# Altium integrated library PowerInductors.IntLib: 24 symbols
Pins are listed as number, name and electrical type; pins without a type are passive.

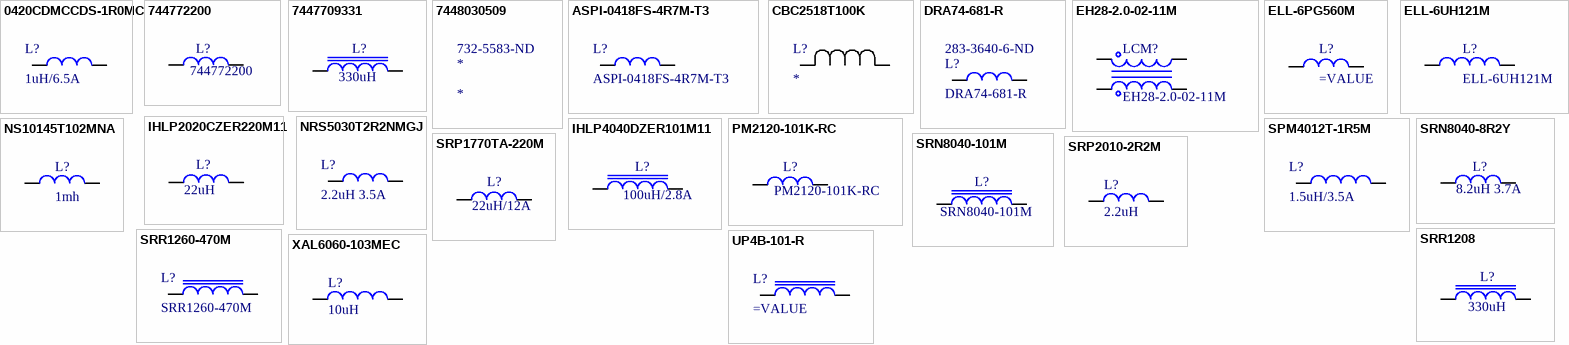
[diagram p0: symbols 0420CDMCCDS-1R0MC to XAL6060-103MEC]

## 0420CDMCCDS-1R0MC
designator L?, comment 1uH/6.5A
FIXED IND 1UH 6.5A 27 MOHM; Manufacturer 1: Sumida; Manufacturer Part Number 1: 0420CDMCCDS-1R0MC; Core Material: Metal; Saturation Current: 8A; Shielding: Shielded; DC Resistance (DCR): 27mR; Test Frequency: 100kHz; Tolerance: 20%; Supplier 1: Digi-Key; RoHS: Yes; Category: Fixed Inductors; Stock 1: 23794; Pricing 1: 1=0,86000, 10=0,75700, 100=0,54050, 500=0,45402, 1000=0,36754 (USD); Mount: Surface Mount; Case/Package: Nonstandard; Min Operating Temperature: -55°C; Max Operating Temperature: 125°C; Packaging: Tape and Reel; Inductance: 1uH; Current Rating: 6.5A; Length: 0.165inch; Width: 0.165inch; Height - Seated (Max): 0.079inch; ComponentLink1URL: http://products.sumida.com/products/pdf/0420CDMCCDS1.pdf?src-supplier=Digi-Key; ComponentLink1Description: http://products.sumida.com/products/pdf/0420CDMCCDS1.pdf?src-supplier=Digi-Key; Value: 1uH/6.5A; Supplier Part Number 1: 308-2406-1-ND
footprint 0420CDMCCDS
pins: 1, 2

## 744772200
designator L?
FIXED IND 20UH 2.6A 50 MOHM TH; Manufacturer: Wurth Electronics Inc.; Type: Wirewound; Material - Core: Ferrite; Tolerance: ±10%; Shielding: Unshielded; DC Resistance (DCR): 50 mOhm Max; Supplier 1: Digi-Key; Manufacturer Part Number: 744772200; RoHS: RoHS Compliant; Category: Inductors, Coils, Chokes; Stock 1: 217; Pricing 1: 1=0.96, 10=0.909, 50=0.847, 140=0.753, 280=0.69 (USD); Packaging: Tray; Part Status: Active; Q @ Freq: -; Ratings: -; Operating Temperature: -40°C ~ 125°C; Mounting Type: Through Hole; Package / Case: Radial; Supplier Device Package: -; Size / Dimension: 0.307" Dia (7.80mm); Height - Seated (Max): 0.394" (10.00mm); ComponentLink1URL: http://katalog.we-online.de/pbs/datasheet/744772200.pdf; ComponentLink1Description: http://katalog.we-online.de/pbs/datasheet/744772200.pdf; Value: 744772200; Supplier Part Number 1: 732-3765-ND
pins: 1, 2

## 7447709331
designator L?, comment 330uH
FIXED IND 330UH 1.5A 430 MOHM; Manufacturer: Wurth Electronics Inc; Manufacturer Part Number: 7447709331; Type: Wirewound; Material - Core: Ferrite; Inductance: 330µH; Tolerance: ±20%; Current - Saturation: 1.7A; Shielding: Shielded; DC Resistance (DCR): 430 mOhm Max; Frequency - Self Resonant: 2MHz; Frequency - Test: 1kHz; Supplier 1: Digi-Key; RoHS: RoHS Compliant; Category: Inductors, Coils, Chokes; Stock 1: 1493; Pricing 1: 1=3.1, 10=3, 50=2.8, 100=2.6 (USD); Packaging: Cut Tape (CT); Part Status: Active; Current Rating: 1.5A; Q @ Freq: -; Ratings: -; Operating Temperature: -40°C ~ 125°C; Mounting Type: Surface Mount; Package / Case: Nonstandard; Size / Dimension: 0.472" L x 0.472" W (12.00mm x 12.00mm); Height - Seated (Max): 0.394" (10.00mm); ComponentLink1URL: http://katalog.we-online.de/pbs/datasheet/7447709331.pdf; ComponentLink1Description: http://katalog.we-online.de/pbs/datasheet/7447709331.pdf; Supplier Part Number 1: 732-1698-1-ND; Value: 330uH
footprint 7447709331 (0.472" L x 0.472" A (12.00 mm x 12.00 mm) H 0.394" (10.00 mm))
pins: 1, 2

## 7448030509
designator *  Supplier Part Number 1: 732-5583-ND
COMMON MODE CHOKE 9MH 5A 2LN TH; Manufacturer: Wurth Electronics Inc.; Manufacturer Part Number: 7448030509; Filter Type: Power Line; Number of Lines: 2; Inductance @ Frequency: 9mH @ 10kHz; DC Resistance (DCR) (Max): 28 mOhm; Voltage Rating - AC: 250V; Supplier 1: Digi-Key; RoHS: RoHS Compliant; Category: Filters; Stock 1: 353; Pricing 1: 1=12.1, 50=10.64, 250=9.07204, 540=8.17602 (USD); Packaging: Bulk; Part Status: Active; Impedance @ Frequency: -; Current Rating (Max): 5A; Voltage Rating - DC: -; Operating Temperature: -40°C ~ 125°C; Ratings: -; Approvals: -; Features: -; Mounting Type: Through Hole; Size / Dimension: 0.866" L x 0.532" W (22.00mm x 13.50mm); Height (Max): 0.984" (25.00mm); Package / Case: Vertical, 4 PC Pin; ComponentLink1URL: http://katalog.we-online.de/pbs/datasheet/7448030509.pdf; ComponentLink1Description: http://katalog.we-online.de/pbs/datasheet/7448030509.pdf

## ASPI-0418FS-4R7M-T3
designator L?
FIXED IND 4.7UH 1.9A 70 MOHM SMD; Manufacturer: Abracon LLC; Type: Wirewound; Material - Core: Ferrite; Inductance: 4.7µH; Tolerance: ±20%; Current - Saturation: 2A; Shielding: Shielded; DC Resistance (DCR): 70 mOhm; Supplier 1: Digi-Key; Manufacturer Part Number: ASPI-0418FS-4R7M-T3; RoHS: RoHS Compliant; Category: Inductors, Coils, Chokes; Stock 1: 5105; Pricing 1: 1=0.54, 10=0.47, 25=0.4368, 50=0.3696, 100=0.336, 250=0.31584, 500=0.28224, 1000=0.22848 (USD); Packaging: Cut Tape (CT); Part Status: Active; Current Rating: 1.9A; Q @ Freq: -; Frequency - Self Resonant: -; Ratings: -; Operating Temperature: -25°C ~ 120°C; Mounting Type: Surface Mount; Package / Case: Nonstandard; Supplier Device Package: -; Size / Dimension: 0.157" L x 0.157" W (4.00mm x 4.00mm); Height - Seated (Max): 0.071" (1.80mm); ComponentLink1URL: http://www.abracon.com/Magnetics/new/ASPI-0418FS.pdf; ComponentLink1Description: http://www.abracon.com/Magnetics/new/ASPI-0418FS.pdf; Value: ASPI-0418FS-4R7M-T3; Supplier Part Number 1: 535-10761-1-ND
footprint ASPI-0418
pins: 1, 2

## CBC2518T100K
designator L?
Imported; Manufacturer_Part_Number: CBC2518T100K; Vendor: TAIYO YUDEN; Built_By: EMA_UL_Team; Type: DEV; C: Copyright (C) 2015 Accelerated Designs. All rights reserved; RefDes: RefDes; Value: Value
footprint IND_TAIYO_CBC251
pins: 1, 2

## DRA74-681-R
designator L?  Supplier Part Number 1: 283-3640-6-ND
Fixed Inductors 680uH 0.352A 2.86ohms; Manufacturer: Eaton Cooper; Core Material: Ferrite; Tolerance: 20%; Shielding: Shielded; Saturation Current: 352mA; Current Rating: 315mA; DC Resistance (DCR): 2.86R; Test Frequency: 100kHz; Current: 386mA; Supplier 1: Digi-Key; Manufacturer Part Number: DRA74-681-R; Stock 1: 3186; Pricing 1: 1=2.28, 10=2.105, 100=1.4732, 500=1.1926 (USD); Mount: Surface Mount; Case/Package: Nonstandard; Weight: 0.016oz; Min Operating Temperature: -40°C; Max Operating Temperature: 165°C; Packaging: Tape and Reel; Package Quantity: 1100; Inductance: 680uh; Inductance Tolerance: 20%; Max DC Current: 352mA; Termination: SMD/SMT; Composition: Wirewound; Self Resonant Frequency: 100kHz; RMS Current (Irms): 315mA; DC Current: 315mA; Military Standard: Not; Length: 7.6mm; Height: 4.35mm; Width: 7.6mm; Height - Seated (Max): 0.171inch; Depth: 7.6mm; REACH SVHC: No SVHC; ComponentLink1URL: https://datasheet.ciiva.com/6694/9190a0eb-f996-4faf-a4d6-7b76f954f32d-6694120.pdf; ComponentLink1Description: https://datasheet.ciiva.com/6694/9190a0eb-f996-4faf-a4d6-7b76f954f32d-6694120.pdf; ComponentLink2URL: https://datasheet.ciiva.com/6694/9190a0eb-f996-4faf-a4d6-7b76f954f32d-6694122.pdf; ComponentLink2Description: https://datasheet.ciiva.com/6694/9190a0eb-f996-4faf-a4d6-7b76f954f32d-6694122.pdf; ComponentLink3URL: https://datasheet.ciiva.com/8005/661909-8005002.pdf; ComponentLink3Description: https://datasheet.ciiva.com/8005/661909-8005002.pdf; ComponentLink4URL: https://datasheet.ciiva.com/6694/9190a0eb-f996-4faf-a4d6-7b76f954f32d-6694124.pdf; ComponentLink4Description: https://datasheet.ciiva.com/6694/9190a0eb-f996-4faf-a4d6-7b76f954f32d-6694124.pdf; Value: DRA74-681-R
footprint DRA74-681-R
pins: 1, 2

## EH28-2.0-02-11M
designator LCM?
COMMON MODE CHOKE 11MH 2A 2LN TH; Manufacturer: Schaffner EMC Inc.; Filter Type: Power Line; Number of Lines: 2; Inductance @ Frequency: 11mH @ 10kHz; DC Resistance (DCR) (Max): 162 mOhm (Typ); Voltage Rating - AC: 250V; Supplier 1: Digi-Key; Manufacturer Part Number: EH28-2.0-02-11M; RoHS: RoHS Compliant; Category: Filters; Stock 1: 3; Pricing 1: 1=3.16, 10=2.896, 25=2.6324, 50=2.2114, 100=1.8954, 250=1.79012, 500=1.6848, 1000=1.5795, 5000=1.5561 (USD); Packaging: Tube; Part Status: Active; Impedance @ Frequency: -; Current Rating (Max): 2A; Voltage Rating - DC: -; Operating Temperature: -25°C ~ 100°C; Ratings: -; Approvals: -; Features: -; Mounting Type: Through Hole; Size / Dimension: 1.102" L x 1.102" W (28.00mm x 28.00mm); Height (Max): 0.941" (23.90mm); Package / Case: Horizontal, 4 PC Pin; ComponentLink1URL: http://www.schaffner.com/fileadmin/media/products/pim/EV_EH%20series.pdf; ComponentLink1Description: http://www.schaffner.com/fileadmin/media/products/pim/EV_EH%20series.pdf; Value: EH28-2.0-02-11M; Supplier Part Number 1: 817-1018-ND
footprint EH28-2.0-02-11M
pins: 1, 2, 3, 4

## ELL-6PG560M
designator L?
PANASONIC   ELL6PG560M   CHOKE, POWER, 6X6X2MM, 56UH; Manufacturer Part Number: ELL-6PG560M; Inductance Tolerance: 20%; Self Resonant Frequency: 100kHz; Shielding: Shielded; Current Rating: 550mA; Saturation Current: 500mA; DC Resistance (DCR): 520mR; Supplier 1: Digi-Key; Manufacturer: Panasonic; Stock 1: 1393; Pricing 1: 1=0.82, 10=0.718, 100=0.5132, 500=0.4311 (USD); Mount: Surface Mount; Case/Package: 2424; Number of Pins: 2; Packaging: Tape and Reel; Tolerance: 20%; Package Quantity: 1000; Inductance: 56uh; Max DC Current: 500mA; Termination: SMD/SMT; Test Frequency: 100kHz; Composition: Wirewound; DC Current: 550mA; Military Standard: Not; RMS Current (Irms): 550mA; Length: 6mm; Height: 2mm; Width: 6mm; Height - Seated (Max): 0.079inch; Depth: 6.3mm; Radiation Hardening: No; REACH SVHC: No SVHC; ComponentLink1URL: https://datasheet.ciiva.com/8506/agm0000ce13-8506853.pdf; ComponentLink1Description: https://datasheet.ciiva.com/8506/agm0000ce13-8506853.pdf; ComponentLink2URL: https://datasheet.ciiva.com/6041/391793-6041595.pdf; ComponentLink2Description: https://datasheet.ciiva.com/6041/391793-6041595.pdf; ComponentLink3URL: https://datasheet.ciiva.com/22702/391793-22702972.pdf; ComponentLink3Description: https://datasheet.ciiva.com/22702/391793-22702972.pdf; ComponentLink4URL: https://datasheet.ciiva.com/6041/391793-6041597.pdf; ComponentLink4Description: https://datasheet.ciiva.com/6041/391793-6041597.pdf; ComponentLink5URL: https://datasheet.ciiva.com/11800/0900766b80beebf0-11800479.pdf; ComponentLink5Description: https://datasheet.ciiva.com/11800/0900766b80beebf0-11800479.pdf; ComponentLink6URL: https://datasheet.ciiva.com/17272/agm0000ce13-17272911.pdf; ComponentLink6Description: https://datasheet.ciiva.com/17272/agm0000ce13-17272911.pdf; Supplier Part Number 1: PCD2271DKR-ND
footprint ELL-6PG560M
pins: 1, 2

## ELL-6UH121M
designator L?
FIXED IND 120UH 580MA 480 MOHM; Manufacturer: Panasonic Electronic Components; Type: Wirewound; Inductance: 120µH; Tolerance: ±20%; Shielding: Shielded; Frequency - Test: 100kHz; Supplier 1: Digi-Key; Manufacturer Part Number: ELL-6UH121M; RoHS: RoHS Compliant; Category: Inductors, Coils, Chokes; Stock 1: 1775; Pricing 1: 1=0.81, 10=0.758, 50=0.7106, 100=0.6633, 500=0.52112 (USD); Packaging: Cut Tape (CT); Part Status: Active; Material - Core: -; Current Rating: 580mA; Current - Saturation: -; DC Resistance (DCR): 480 mOhm; Q @ Freq: -; Frequency - Self Resonant: -; Ratings: -; Operating Temperature: -; Mounting Type: Surface Mount; Package / Case: Nonstandard; Size / Dimension: 0.251" L x 0.236" W (6.40mm x 6.00mm); Height - Seated (Max): 0.197" (5.00mm); ComponentLink1URL: http://industrial.panasonic.com/cdbs/www-data/pdf/AGM0000/AGM0000CE9.pdf; ComponentLink1Description: http://industrial.panasonic.com/cdbs/www-data/pdf/AGM0000/AGM0000CE9.pdf; Value: ELL-6UH121M; Supplier Part Number 1: PCD2120CT-ND
footprint IND_ELL6UH
pins: 1, 2

## IHLP2020CZER220M11
designator L?, comment 22uH
VISHAY - IHLP2020CZER220M11 - Power Inductor (SMD), 22 µH, 1.9 A, Shielded, 1.7 A, IHLP-2020CZ-11 Series, 5.49mm x 5.18mm x 3mm; Manufacturer 1: Vishay Dale; Core Material: Metal,Composite,Ferrite; Inductance Tolerance: 20%; Self Resonant Frequency: 10MHz; Current Rating: 1.9A; Saturation Current: 1.7A; DC Resistance (DCR): 270mR; Test Frequency: 100kHz; Supplier 1: Digi-Key; Manufacturer Part Number 1: IHLP2020CZER220M11; RoHS: Yes; Category: Fixed Inductors; Stock 1: 22583; Pricing 1: 1=2,39000, 10=2,20800, 100=1,54560, 500=1,25120, 1000=1,14080 (USD); Mount: Surface Mount; Case/Package: 2020; Number of Pins: 2020; Contact Plating: Tin; Min Operating Temperature: -55°C; Max Operating Temperature: 125°C; Tolerance: 20%; Shielding: Shielded; Packaging: Tape and Reel; Package Quantity: 2000; Inductance: 22uH; Max DC Current: 1.7A; Termination: SMD/SMT; RMS Current (Irms): 1.9A; Military Standard: Not; Length: 5.74mm; Height: 3mm; Width: 5.18mm; Height - Seated (Max): 0.118inch; Depth: 5.43mm; Radiation Hardening: No; REACH SVHC: Unknown; Lead Free: Lead Free; ComponentLink1URL: https://datasheet.ciiva.com/5706/480942-5706624.pdf?src-supplier=Farnell; ComponentLink1Description: https://datasheet.ciiva.com/5706/480942-5706624.pdf?src-supplier=Farnell; ComponentLink2URL: https://datasheet.ciiva.com/3865/lp20cz11-3865987.pdf?src-supplier=Arrow; ComponentLink2Description: https://datasheet.ciiva.com/3865/lp20cz11-3865987.pdf?src-supplier=Arrow; ComponentLink3URL: https://datasheet.ciiva.com/7290/1537123-7290165.pdf?src-supplier=Newark; ComponentLink3Description: https://datasheet.ciiva.com/7290/1537123-7290165.pdf?src-supplier=Newark; ComponentLink4URL: https://datasheet.ciiva.com/23825/1750857-23825324.pdf?src-supplier=Newark; ComponentLink4Description: https://datasheet.ciiva.com/23825/1750857-23825324.pdf?src-supplier=Newark; ComponentLink5URL: https://datasheet.ciiva.com/11798/0900766b8102c930-11798351.pdf?src-supplier=RSComponents; ComponentLink5Description: https://datasheet.ciiva.com/11798/0900766b8102c930-11798351.pdf?src-supplier=RSComponents; ComponentLink6URL: https://datasheet.ciiva.com/1051/lp20cz11-1051636.pdf?src-supplier=Digi-Key; ComponentLink6Description: https://datasheet.ciiva.com/1051/lp20cz11-1051636.pdf?src-supplier=Digi-Key; ComponentLink7URL: https://datasheet.ciiva.com/1051/lp20cz11-1051637.pdf?src-supplier=Digi-Key; ComponentLink7Description: https://datasheet.ciiva.com/1051/lp20cz11-1051637.pdf?src-supplier=Digi-Key; ComponentLink8URL: https://datasheet.ciiva.com/16379/lp20cz11-16379477.pdf?src-supplier=Future+Electronics; ComponentLink8Description: https://datasheet.ciiva.com/16379/lp20cz11-16379477.pdf?src-supplier=Future+Electronics; ComponentLink9URL: https://datasheet.ciiva.com/16940/70205433-16940789.pdf?src-supplier=Allied+Electronics; ComponentLink9Description: https://datasheet.ciiva.com/16940/70205433-16940789.pdf?src-supplier=Allied+Electronics; ComponentLink10URL: https://datasheet.ciiva.com/22694/480942-22694469.pdf?src-supplier=Element14; ComponentLink10Description: https://datasheet.ciiva.com/22694/480942-22694469.pdf?src-supplier=Element14; ComponentLink11URL: https://datasheet.ciiva.com/1051/lp20cz11-1051638.pdf?src-supplier=Digi-Key; ComponentLink11Description: https://datasheet.ciiva.com/1051/lp20cz11-1051638.pdf?src-supplier=Digi-Key; ComponentLink12URL: https://datasheet.ciiva.com/3081/lp20cz11-3081959.pdf?src-supplier=Avnet; ComponentLink12Description: https://datasheet.ciiva.com/3081/lp20cz11-3081959.pdf?src-supplier=Avnet; ComponentLink13URL: https://datasheet.ciiva.com/17269/lp20cz11-17269544.pdf?src-supplier=Avnet+Europe; ComponentLink13Description: https://datasheet.ciiva.com/17269/lp20cz11-17269544.pdf?src-supplier=Avnet+Europe; Value: 22uH; Supplier Part Number 1: 541-1243-1-ND
footprint IHLP2020CZ
pins: 1, 2

## IHLP4040DZER101M11
designator L?, comment 100uH/2.8A
FIXED IND 100UH 2.5A 270 MOHM; Manufacturer: Vishay Dale; Manufacturer Part Number: IHLP4040DZER101M11; Type: Molded; Tolerance: ±20%; Shielding: Shielded; DC Resistance (DCR): 270 mOhm Max; Supplier 1: Digi-Key; RoHS: RoHS Compliant; Category: Inductors, Coils, Chokes; Stock 1: 6022; Pricing 1: 1=2.92, 10=2.691, 100=1.8837 (USD); Packaging: Cut Tape (CT); Part Status: Active; Material - Core: -; Q @ Freq: -; Ratings: -; Operating Temperature: -55°C ~ 125°C; Mounting Type: Surface Mount; Package / Case: Nonstandard; Supplier Device Package: -; Size / Dimension: 0.430" L x 0.405" W (10.92mm x 10.30mm); Height - Seated (Max): 0.157" (4.00mm); ComponentLink1URL: http://www.vishay.com/docs/34192/lp40dz11.pdf; ComponentLink1Description: http://www.vishay.com/docs/34192/lp40dz11.pdf; Value: 100uH/2.8A; Supplier Part Number 1: 541-1310-1-ND
footprint IHLP4040DZ
pins: 1, 2

## NRS5030T2R2NMGJ
designator L?, comment 2.2uH 3.5A
Fixed Inductors 5030 2.2uH 29.9mOhms +/-30%Tol 3500mA; Manufacturer: Taiyo Yuden; Manufacturer Part Number: NRS5030T2R2NMGJ; Core Material: Ferrite; Tolerance: 30%; Self Resonant Frequency: 46MHz; Shielding: Shielded; Saturation Current: 4.2A; DC Resistance (DCR): 23mR; Test Frequency: 100kHz; Supplier 1: Digi-Key; Stock 1: 5730; Pricing 1: 1=0,38000, 10=0,34000, 100=0,23400 (USD); RoHS: Yes; Mount: Surface Mount; Case/Package: 5030; Min Operating Temperature: -25°C; Max Operating Temperature: 120°C; Packaging: Tape and Reel; Package Quantity: 500; Current Rating: 3.5A; Inductance: 2.2uH; Max DC Current: 4.2A; Termination: SMD/SMT; Length: 0.193inch; Height: 3.1mm; Width: 4.9mm; Height - Seated (Max): 0.122inch; Depth: 4.9mm; Radiation Hardening: No; Halogen Free: Halogen Free; ComponentLink1URL: https://datasheet.ciiva.com/29884/wound04-e-29884108.pdf?src-supplier=Avnet; ComponentLink1Description: https://datasheet.ciiva.com/29884/wound04-e-29884108.pdf?src-supplier=Avnet; ComponentLink2URL: https://datasheet.ciiva.com/48682/wound04-e-48682412.pdf?src-supplier=Avnet; ComponentLink2Description: https://datasheet.ciiva.com/48682/wound04-e-48682412.pdf?src-supplier=Avnet; ComponentLink3URL: https://datasheet.ciiva.com/18686/wound04-e-18686397.pdf?src-supplier=Digi-Key; ComponentLink3Description: https://datasheet.ciiva.com/18686/wound04-e-18686397.pdf?src-supplier=Digi-Key; ComponentLink4URL: https://datasheet.ciiva.com/18686/wound04-e-18686398.pdf?src-supplier=Digi-Key; ComponentLink4Description: https://datasheet.ciiva.com/18686/wound04-e-18686398.pdf?src-supplier=Digi-Key; ComponentLink5URL: https://datasheet.ciiva.com/18686/wound04-e-18686399.pdf?src-supplier=Digi-Key; ComponentLink5Description: https://datasheet.ciiva.com/18686/wound04-e-18686399.pdf?src-supplier=Digi-Key; Value: 2.2uH 3.5A; Supplier Part Number 1: 587-3457-1-ND
footprint NRS5030T2R2NMGJ
pins: 1, 2

## NS10145T102MNA
designator L?, comment 1mh
FIXED IND 1MH 320MA 3.096 OHM; Manufacturer: Taiyo Yuden; Manufacturer Part Number: NS10145T102MNA; Core Material: Ferrite; Inductance Tolerance: 20%; Saturation Current: 410mA; Shielding: Shielded; Self Resonant Frequency: 1.7MHz; DC Resistance (DCR): 3.096R; Test Frequency: 100kHz; Supplier 1: Digi-Key; Supplier Part Number 1: 587-3117-1-ND; Stock 1: 513; Pricing 1: 1=0.94, 10=0.875, 100=0.6324 (USD); Mount: Surface Mount; Case/Package: Nonstandard; Min Operating Temperature: -40°C; Max Operating Temperature: 125°C; Packaging: Tape and Reel; Tolerance: 20%; Package Quantity: 500; Current Rating: 320mA; Composition: Wirewound; Inductance: 1mh; Max DC Current: 410mA; Termination: SMD/SMT; RMS Current (Irms): 320mA; Length: 0.398inch; Height: 4.5mm; Width: 0.398inch; Height - Seated (Max): 0.191inch; Depth: 10.4mm; Radiation Hardening: No; REACH SVHC: Unknown; Halogen Free: Halogen Free; ComponentLink1URL: https://datasheet.ciiva.com/22710/1918812-22710375.pdf; ComponentLink1Description: https://datasheet.ciiva.com/22710/1918812-22710375.pdf; ComponentLink2URL: https://datasheet.ciiva.com/3079/ns10145t102mna-ss-3079179.pdf; ComponentLink2Description: https://datasheet.ciiva.com/3079/ns10145t102mna-ss-3079179.pdf
footprint NS10145T102MNA (FIXED IND 1MH 320MA 3.096 OHM)
pins: 1, 2

## PM2120-101K-RC
designator L?
FIXED IND 100UH 6.1A 35 MOHM SMD; Manufacturer: Bourns; Core Material: Ferrite; Current Rating: 6.1; Tolerance: 10; Shielding: Unshielded; Inductance: 100; DC Resistance (DCR): 35; Test Frequency: 1; Supplier 1: Digi-Key; Manufacturer Part Number: PM2120-101K-RC; Stock 1: 477; Pricing 1: 1=2.55, 10=2.338, 100=1.53, 500=1.36, 1000=1.33 (USD); Mount: Surface Mount; Case/Package: Nonstandard; Number of Pins: 2; Min Operating Temperature: -55; Max Operating Temperature: 105; Package Quantity: 77; Packaging: Bulk; Termination: SMD/SMT; Inductance Tolerance: 10; Max DC Current: 6.1; DC Current: 6.1; Military Standard: Not; RMS Current (Irms): 6.1; Length: 30.5; Height: 22.1; Depth: 25.4; Width: 1; Height - Seated (Max): 0.87; Lead Pitch: 22.9; Radiation Hardening: No; REACH SVHC: No SVHC; Lead Free: Lead Free; ComponentLink1URL: https://datasheet.ciiva.com/1052/pm2120-series-1052818.pdf; ComponentLink1Description: https://datasheet.ciiva.com/1052/pm2120-series-1052818.pdf; ComponentLink2URL: https://datasheet.ciiva.com/15160/getdatasheetpartid-92649-15160309.pdf; ComponentLink2Description: https://datasheet.ciiva.com/15160/getdatasheetpartid-92649-15160309.pdf; ComponentLink3URL: https://datasheet.ciiva.com/8003/pm2120-series-8003767.pdf; ComponentLink3Description: https://datasheet.ciiva.com/8003/pm2120-series-8003767.pdf; ComponentLink4URL: https://datasheet.ciiva.com/11801/0900766b80fa5805-11801946.pdf; ComponentLink4Description: https://datasheet.ciiva.com/11801/0900766b80fa5805-11801946.pdf; ComponentLink5URL: https://datasheet.ciiva.com/7838/1695381-7838875.pdf; ComponentLink5Description: https://datasheet.ciiva.com/7838/1695381-7838875.pdf; ComponentLink6URL: https://datasheet.ciiva.com/8517/pm2120-series-8517228.pdf; ComponentLink6Description: https://datasheet.ciiva.com/8517/pm2120-series-8517228.pdf; ComponentLink7URL: https://datasheet.ciiva.com/30052/pm2120-series-30052719.pdf; ComponentLink7Description: https://datasheet.ciiva.com/30052/pm2120-series-30052719.pdf; Value: PM2120-101K-RC; Supplier Part Number 1: M8793-ND
footprint PM2120-101K-RC
pins: 1, 2

## SPM4012T-1R5M
designator L?, comment 1.5uH/3.5A
FIXED IND 1.5UH 3.5A 70 MOHM SMD; Manufacturer: TDK Corporation; Manufacturer Part Number: SPM4012T-1R5M; Type: Wirewound; Material - Core: Metal; Tolerance: ±20%; Shielding: Shielded; DC Resistance (DCR): 70 mOhm Max; Supplier 1: Digi-Key; RoHS: RoHS Compliant; Category: Inductors, Coils, Chokes; Stock 1: 4388; Pricing 1: 1=1.51, 10=1.405, 100=1.0161, 500=0.77832 (USD); Packaging: Cut Tape (CT); Part Status: Active; Q @ Freq: -; Ratings: -; Operating Temperature: -40°C ~ 125°C; Mounting Type: Surface Mount; Package / Case: Nonstandard; Supplier Device Package: -; Size / Dimension: 0.173" L x 0.161" W (4.40mm x 4.10mm); Height - Seated (Max): 0.047" (1.20mm); ComponentLink1URL: https://product.tdk.com/info/en/documents/catalog/inductor_commercial_power_spm4012_en.pdf; ComponentLink1Description: https://product.tdk.com/info/en/documents/catalog/inductor_commercial_power_spm4012_en.pdf; Supplier Part Number 1: 445-15778-1-ND; Value: 1.5uH/3.5A
footprint SPM4012T-1R5M
pins: 1, 2

## SRN8040-8R2Y
designator L?, comment 8.2uH 3.7A
FIXED IND 8.2UH 3.7A 45 MOHM SMD; Manufacturer 1: Bourns; Manufacturer Part Number 1: SRN8040-8R2Y; Core Material: Ferrite; Material: Steel; Inductance Tolerance: 30%; Shielding: Shielded; Saturation Current: 4A; DC Resistance (DCR): 45mR; Self Resonant Frequency: 20MHz; Test Frequency: 100kHz; Supplier 1: Digi-Key; RoHS: Yes; Category: Fixed Inductors; Stock 1: 7513; Pricing 1: 1=0,74000, 10=0,64400, 100=0,46000, 500=0,38640 (USD); Mount: Surface Mount; Case/Package: Nonstandard; Number of Pins: 2; Weight: 0.028607oz; Min Operating Temperature: -40°C; Max Operating Temperature: 125°C; Tolerance: 30%; Packaging: Tape and Reel; Package Quantity: 1000; Current Rating: 3.7A; Inductance: 8.2uH; Composition: Wirewound; Max DC Current: 3.7A; Termination: SMD/SMT; DC Current: 3.7A; Military Standard: Not; Length: 8mm; Height: 4mm; Width: 8mm; Height - Seated (Max): 0.157inch; Depth: 8.3mm; REACH SVHC: No SVHC; ComponentLink1URL: https://datasheet.ciiva.com/11802/0900766b80fe1f3f-11802622.pdf?src-supplier=RSComponents; ComponentLink1Description: https://datasheet.ciiva.com/11802/0900766b80fe1f3f-11802622.pdf?src-supplier=RSComponents; ComponentLink2URL: https://datasheet.ciiva.com/17112/70231668-17112534.pdf?src-supplier=Allied+Electronics; ComponentLink2Description: https://datasheet.ciiva.com/17112/70231668-17112534.pdf?src-supplier=Allied+Electronics; ComponentLink3URL: https://datasheet.ciiva.com/1049/srn8040-1049465.pdf?src-supplier=Digi-Key; ComponentLink3Description: https://datasheet.ciiva.com/1049/srn8040-1049465.pdf?src-supplier=Digi-Key; ComponentLink4URL: https://datasheet.ciiva.com/1049/srn8040-1049466.pdf?src-supplier=Digi-Key; ComponentLink4Description: https://datasheet.ciiva.com/1049/srn8040-1049466.pdf?src-supplier=Digi-Key; ComponentLink5URL: https://datasheet.ciiva.com/1049/srn8040-1049467.pdf?src-supplier=Digi-Key; ComponentLink5Description: https://datasheet.ciiva.com/1049/srn8040-1049467.pdf?src-supplier=Digi-Key; ComponentLink6URL: https://datasheet.ciiva.com/17284/srn8040-17284795.pdf?src-supplier=Avnet+Europe; ComponentLink6Description: https://datasheet.ciiva.com/17284/srn8040-17284795.pdf?src-supplier=Avnet+Europe; ComponentLink7URL: https://datasheet.ciiva.com/5986/1733536-5986220.pdf?src-supplier=Farnell; ComponentLink7Description: https://datasheet.ciiva.com/5986/1733536-5986220.pdf?src-supplier=Farnell; ComponentLink8URL: https://datasheet.ciiva.com/7848/srn8040-7848060.pdf?src-supplier=Element14; ComponentLink8Description: https://datasheet.ciiva.com/7848/srn8040-7848060.pdf?src-supplier=Element14; Value: 8.2uH 3.7A; Supplier Part Number 1: SRN8040-8R2YCT-ND
footprint SRN8040-101M (0.315" L x 0.315" A (8.00 mm x 8.00 mm) / 0.157" (4.00 mm)H)
pins: 1, 2

## SRN8040-101M
designator L?
FIXED IND 100UH 1A 400 MOHM SMD; Manufacturer: Bourns Inc.; Type: Wirewound; Material - Core: Ferrite; Inductance: 100µH; Tolerance: ±20%; Shielding: Shielded; DC Resistance (DCR): 400 mOhm Max; Q @ Freq: 10 @ 796kHz; Frequency - Self Resonant: 6MHz; Frequency - Test: 100kHz; Supplier 1: Digi-Key; Supplier Part Number 1: SRN8040-101MCT-ND; Manufacturer Part Number: SRN8040-101M; RoHS: RoHS Compliant; Category: Inductors, Coils, Chokes; Stock 1: 10401; Pricing 1: 1=0.58, 10=0.512, 25=0.48, 50=0.416, 100=0.384, 250=0.3648, 500=0.3328 (USD); Packaging: Cut Tape (CT); Current Rating: 1A; Current - Saturation: 1A; Ratings: -; Operating Temperature: -40°C ~ 125°C; Mounting Type: Surface Mount; Package / Case: Nonstandard; Size / Dimension: 0.315" L x 0.315" W (8.00mm x 8.00mm); Height - Seated (Max): 0.157" (4.00mm); ComponentLink1URL: http://www.bourns.com/docs/Product-Datasheets/SRN8040.pdf; ComponentLink1Description: http://www.bourns.com/docs/Product-Datasheets/SRN8040.pdf; Value: *
footprint SRN8040-101M (0.315" L x 0.315" A (8.00 mm x 8.00 mm) / 0.157" (4.00 mm)H)
pins: 1, 2

## SRP1770TA-220M
designator L?, comment 22uH/12A
BOURNS - SRP1770TA-220M - INDUCTOR, SHIELDED, 22UH, 12A, 20%; Core Material: Carbonyl Powder; Saturation Current: 18A; DC Resistance (DCR): 26.5mR; Self Resonant Frequency: 5MHz; Test Frequency: 100kHz; Supplier 1: Digi-Key; Manufacturer 1: Bourns; Manufacturer Part Number 1: SRP1770TA-220M; RoHS: Yes; Category: Fixed Inductors; Stock 1: 799; Pricing 1: 1=4,31000, 10=3,95300, 100=2,58750 (USD); Mount: Surface Mount; Case/Package: Nonstandard; Min Operating Temperature: -40°C; Max Operating Temperature: 150°C; Packaging: Cut Tape; Composition: Wirewound; Inductance: 22uH; Current Rating: 12A; Shielding: Shielded; RMS Current (Irms): 12A; Tolerance: 20%; Inductance Tolerance: 20%; Length: 0.666inch; Width: 0.666inch; Height - Seated (Max): 0.276inch; Ratings: AEC-Q200; REACH SVHC: No SVHC; ComponentLink1URL: http://www.farnell.com/datasheets/2647420.pdf?src-supplier=Farnell; ComponentLink1Description: http://www.farnell.com/datasheets/2647420.pdf?src-supplier=Farnell; ComponentLink2URL: https://www.bourns.com/docs/Product-Datasheets/SRP1770TA.pdf?src-supplier=Digi-Key; ComponentLink2Description: https://www.bourns.com/docs/Product-Datasheets/SRP1770TA.pdf?src-supplier=Digi-Key; ComponentLink3URL: http://www.farnell.com/datasheets/1955470.pdf?src-supplier=Element14; ComponentLink3Description: http://www.farnell.com/datasheets/1955470.pdf?src-supplier=Element14; ComponentLink4URL: http://www.bourns.com/docs/Product-Datasheets/SRP1770TA.pdf?src-supplier=Digi-Key; ComponentLink4Description: http://www.bourns.com/docs/Product-Datasheets/SRP1770TA.pdf?src-supplier=Digi-Key; ComponentLink5URL: http://www.farnell.com/datasheets/2647420.pdf?src-supplier=Newark; ComponentLink5Description: http://www.farnell.com/datasheets/2647420.pdf?src-supplier=Newark; Value: 22uH/12A; Supplier Part Number 1: SRP1770TA-220MCT-ND
footprint SRP1770TA
pins: 1, 2

## SRP2010-2R2M
designator L?, comment 2.2uH
BOURNS         SRP2010-2R2M            Surface Mount Power Inductor, SRP2010 Series, 2.2 H,  20%, Wirewound, 0.168 ohm, 1.5 A; Core Material: Ferrite; Current Rating: 1.7A; Saturation Current: 1.9A; Shielding: Shielded; DC Resistance (DCR): 168mR; Test Frequency: 1MHz; RMS Current (Irms): 1.5A; Max DC Current: 2.2A; Supplier 1: Digi-Key; Manufacturer: Bourns; Manufacturer Part Number: SRP2010-2R2M; Stock 1: 32179; Pricing 1: 1 = 0,55000, 10 = 0,48300, 100 = 0,34500, 500 = 0,28980, 1000 = 0,23460 (USD); RoHS: Yes; Mount: Surface Mount; Case/Package: 0806; Case Code (Metric): 2010; Case Code (Imperial): 0806; Min Operating Temperature: -40°C; Max Operating Temperature: 125°C; Tolerance: 20%; Packaging: Tape and Reel; Inductance Tolerance: 20%; Composition: Wirewound; Inductance: 2.2uH; Termination: SMD/SMT; Package Quantity: 3000; Length: 0.079inch; Height: 1mm; Width: 1.6mm; Height - Seated (Max): 0.039inch; Depth: 1.6mm; REACH SVHC: No SVHC; ComponentLink1URL: https://datasheet.ciiva.com/46437/1828827-46437464.pdf?src-supplier=Element14; ComponentLink1Description: https://datasheet.ciiva.com/46437/1828827-46437464.pdf?src-supplier=Element14; ComponentLink2URL: https://datasheet.ciiva.com/48684/srp2010-48684744.pdf?src-supplier=Avnet; ComponentLink2Description: https://datasheet.ciiva.com/48684/srp2010-48684744.pdf?src-supplier=Avnet; Value: 2.2uH; Supplier Part Number 1: SRP2010-2R2MCT-ND
footprint SRP2010-2R2M
footprint INDP2016X10N (Precision Wire Wound Inductor, 2-Leads, Body 2,00x1,60mm, IPC Medium Density)
pins: 1, 2

## SRR1208
designator L?, comment 330uH
Fixed Inductor 330UH 1.5A 430mOhm; Manuf1: Wurth Electronics Inc; Manuf1Partnumber: 7447709331; Populated: Yes; Value: 330uH; ROHS: Yes; HelpURL: *; LifeCycle: Checked; Supplier 1: Digi-Key; Supplier 2: Newark; Supplier Part Number 1: 732-1698-1-ND; Supplier Part Number 2: 88T7078
footprint SRR1208
pins: 1, 2

## SRR1260-470M
designator L?
FIXED IND 47UH 2.6A 86 MOHM SMD; Manufacturer: Bourns Inc.; Type: Wirewound; Material - Core: Ferrite; Inductance: 47µH; Tolerance: ±20%; Current - Saturation: 2.5A; Shielding: Shielded; DC Resistance (DCR): 86 mOhm Max; Q @ Freq: 22 @ 2.52MHz; Frequency - Self Resonant: 7.63MHz; Supplier 1: Digi-Key; Manufacturer Part Number: SRR1260-470M; RoHS: RoHS Compliant; Category: Inductors, Coils, Chokes; Stock 1: 2577; Pricing 1: 1=0.97, 10=0.903, 25=0.8332, 50=0.6944, 100=0.6527, 250=0.58328 (USD); Packaging: Cut Tape (CT); Part Status: Active; Current Rating: 2.6A; Ratings: -; Operating Temperature: -40°C ~ 125°C; Mounting Type: Surface Mount; Package / Case: Nonstandard; Supplier Device Package: -; Size / Dimension: 0.492" L x 0.492" W (12.50mm x 12.50mm); Height - Seated (Max): 0.256" (6.50mm); ComponentLink1URL: http://www.bourns.com/docs/Product-Datasheets/SRR1260.pdf; ComponentLink1Description: http://www.bourns.com/docs/Product-Datasheets/SRR1260.pdf; Value: SRR1260-470M; Supplier Part Number 1: SRR1260-470MCT-ND
footprint SRR1260
pins: 1, 2

## UP4B-101-R
designator L?
INDUCTOR POWER 100UH 2A SMD; Manufacturer: Eaton Bussmann; Manufacturer Part Number: UP4B-101-R; Core Material: Ferrite; Tolerance: 20%; DC Resistance (DCR): 170mR; Shielding: Unshielded; Saturation Current: 3.6A; Test Frequency: 100kHz; Supplier 1: Digi-Key; Stock 1: 638; Pricing 1: 1=3.03, 10=2.78, 100=1.8195 (USD); Mount: Surface Mount; Case/Package: 100; Number of Pins: 2; Weight: 0.224oz; Min Operating Temperature: -40°C; Max Operating Temperature: 85°C; Inductance: 100uh; Packaging: Tape and Reel; Current Rating: 2A; Max DC Current: 2A; DC Current: 2A; Military Standard: Not; Package Quantity: 275; Termination: SMD/SMT; Length: 22.1mm; Height: 7.87mm; Depth: 15mm; Width: 0.59inch; Radiation Hardening: No; Lead Free: Lead Free; ComponentLink1URL: https://datasheet.ciiva.com/30154/f1663d7a6f324829ad99e80a35a7005b-30154296.pdf; ComponentLink1Description: https://datasheet.ciiva.com/30154/f1663d7a6f324829ad99e80a35a7005b-30154296.pdf; Supplier Part Number 1: 513-1093-6-ND
footprint UP4B
pins: 1, 2

## XAL6060-103MEC
designator L?, comment 10uH
Inductor, 7A, 10uH, +/-20%, 27mOhm Max. DCR.; Manuf1: Coilcraft; Manuf1Partnumber: XAL6060-103MEC; Populated: Yes; ComponentLink1Description: Manufacturer Web; ComponentLink2Description: Datasheet Web; ComponentLink3Description: Digikey Web; LatestRevisionDate: 13-January-2015; PackageReference: Coilcraft_Custom; ROHS: Yes; Value: 10uH; Supplier 1: Farnell; Supplier Part Number 1: 2289091
footprint XAL60xx (Coilcraft, Body 5.12x5.24mm, IPC Medium Density)
pins: 1, 2